# Altium integrated library 5034800600.IntLib: 1 symbol
Pins are listed as number, name and electrical type; pins without a type are passive.

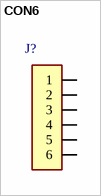
[diagram p0: symbol CON6]

## CON6
designator J?, comment 5034800600  (value not drawn)
ID: 5034800600; PDF: http://www.molex.com/pdm_docs/sd/5034800600_sd.pdf; PRICE: 0.81000; BUY_LINK: http://www.digikey.com/product-detail/en/5034800600/WM1387CT-ND/2356641
footprint 5034800600
pins: 1, 2, 3, 4, 5, 6
1 alternate drawing of the same symbol